# Altium schematic symbol library AWSAM_5.SchLib: 5 symbols
Pins are listed as number, name and electrical type; pins without a type are passive.

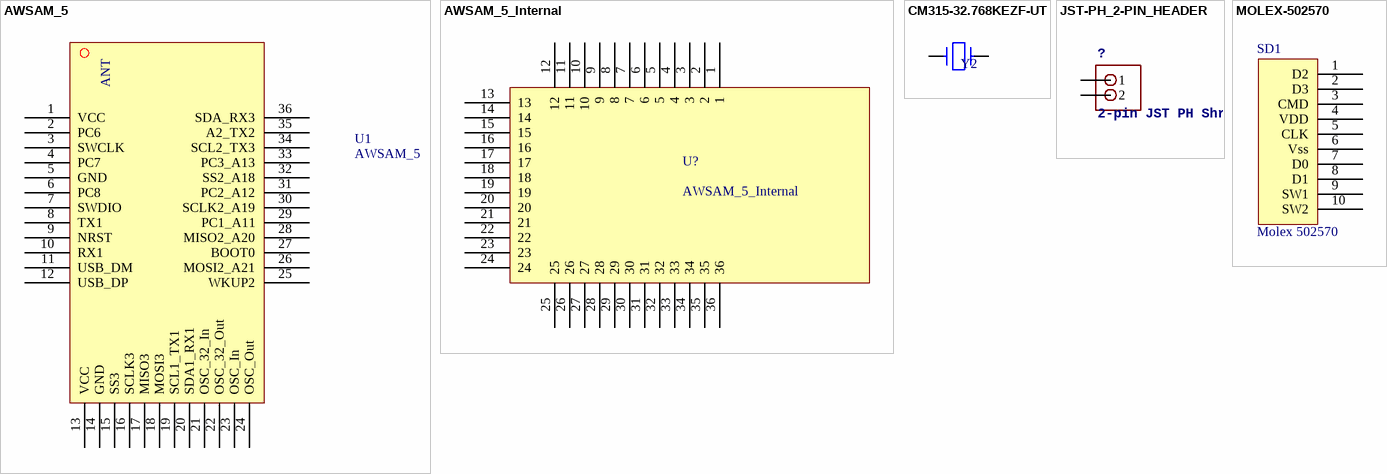
[diagram p0: symbols AWSAM_5 to MOLEX-502570]

## AWSAM_5
designator U1
footprint AWSAM_5 (Footprint for AWSAM_5)
pins: 1 VCC, 2 PC6, 3 SWCLK, 4 PC7, 5 GND, 6 PC8, 7 SWDIO, 8 TX1, 9 NRST, 10 RX1, 11 USB_DM, 12 USB_DP, 13 VCC, 14 GND, 15 SS3, 16 SCLK3, 17 MISO3, 18 MOSI3, 19 SCL1_TX1, 20 SDA1_RX1, 21 OSC_32_In, 22 OSC_32_Out, 23 OSC_In, 24 OSC_Out, 25 WKUP2, 26 MOSI2_A21, 27 BOOT0, 28 MISO2_A20, 29 PC1_A11, 30 SCLK2_A19, 31 PC2_A12, 32 SS2_A18, 33 PC3_A13, 34 SCL2_TX3, 35 A2_TX2, 36 SDA_RX3
text: ANT

## AWSAM_5_Internal
designator U?
footprint AWSAM_5_Internal (Internal footprint for AWSAM_5)
pins: 1, 2, 3, 4, 5, 6, 7, 8, 9, 10, 11, 12, 13, 14, 15, 16, 17, 18, 19, 20, 21, 22, 23, 24, 25, 26, 27, 28, 29, 30, 31, 32, 33, 34, 35, 36

## CM315-32.768KEZF-UT
designator Y2  (value not drawn)
CRYSTAL 32.768KHZ 12.5PF SMD; Manufacturer: Citizen Finetech Miyota; Frequency Tolerance: ±10ppm; ESR (Equivalent Series Resistance): 70 kOhm; Manufacturer Part Number: CM315-32.768KEZF-UT; Frequency: 32.768kHz; Load Capacitance: 12.5pF; Package / Case: 2-SMD; Size / Dimension: 0.126" L x 0.059" W (3.20mm x 1.50mm); Height: 0.035" (0.90mm); ComponentLink1URL: http://cfm.citizen.co.jp/english/product/pdf/CM315.pdf; ComponentLink1Description: http://cfm.citizen.co.jp/english/product/pdf/CM315.pdf; Supplier: Digi-Key; Supplier Part Number: XC1617CT-ND; SLink: http://www.digikey.com/product-detail/en/ECS-.327-12.5-34B/XC1617CT-ND/1693786
footprint SMD Crystal 32kHz
pins: 1 IN, 2 OUT

## JST-PH_2-PIN_HEADER
designator ?, comment 2-pin JST PH Shrouded Header, top entry <br> / P/N B2B-PH-K-S <br> / Mating connector PHR-2 <br> / Mating cable assembly: Sparkfun <a href="http://www.sparkfun.com/products/9914">PRT-09914</a> <br>
footprint JST_B2B-PH_HEADER
pins: P1 1, P2 2

## MOLEX-502570
designator SD1, comment Molex 502570
CONN SM MICROSD
footprint micro SD (Molex 502570 - http://www.molex.com/pdm_docs/sd/5025700893_sd.pdf)
pins: 1 D2, 2 D3, 3 CMD, 4 VDD, 5 CLK, 6 Vss, 7 D0, 8 D1, 9 SW1, 10 SW2